# Altium schematic symbol library IMTP_Кондесаторы.SchLib: 3 symbols
Pins are listed as number, name and electrical type; pins without a type are passive.

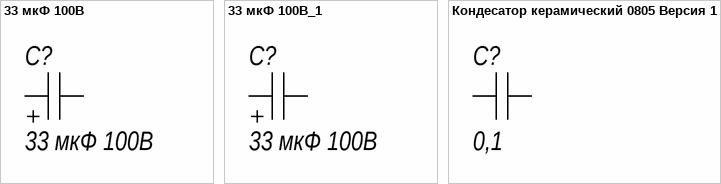
[diagram p0: symbols 33 мкФ 100В to Кондесатор керамический 0805 Версия 1]

## 33 мкФ 100В
designator C?
электролит; LatestRevisionDate: 25.03.2010; Name: 33 мкФ 100В; OutComment: 33 мкФ 100В; PackageDescription: A; Publisher: IMTP FEB RAS
footprint 33 мкФ 100В
pins: 1, 2

## 33 мкФ 100В_1
designator C?, comment 33 мкФ 100В
электролит; LatestRevisionDate: 25.03.2010; Name: 33 мкФ 100В; OutComment: 33 мкФ 100В; PackageDescription: A; Publisher: IMTP FEB RAS
footprint TC3216-1206 (Capacitor, SM Tantalum; Body 3.2 x 1.6 mm (LxW typ))
footprint TCAP C
footprint TCAP D
pins: 1, 2

## Кондесатор керамический 0805 Версия 1
designator C?, comment 0,1
CERCAP 0805; OutComment: CERCAP 0805  X7R 0,1 мкФ 50В; LatestRevisionDate: 25.03.2010; Name: 0,1; PackageDescription: 0805; Publisher: IMTP FEB RAS
footprint С0603 (Чип резистор; Размер 2 x 1.3 мм (Д x Ш))
footprint 0805 (Чип резистор; Размер 2 x 1.3 мм (Д x Ш))
pins: 1, 2